# Altium schematic symbol library NX138AKR.SchLib: 1 symbol
Pins are listed as number, name and electrical type; pins without a type are passive.

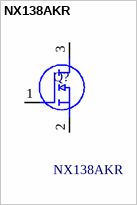
[diagram p0: symbol NX138AKR]

## NX138AKR
designator Q?
MOSFET 60V N-CH TENCH MOS; Manufacturer_Name: Nexperia; Geometry.Height: 1.1mm; Mouser Part Number: 771-NX138AKR; Mouser Price/Stock: https://www.mouser.co.uk/ProductDetail/Nexperia/NX138AKR?qs=1fQ7IOp4WrgZzhNlGoooaw%3D%3D; Manufacturer_Part_Number: NX138AKR; Datasheet Link: https://assets.nexperia.com/documents/data-sheet/NX138AK.pdf
footprint SOT95P230X110-3N
pins: 1 G, 2 S, 3 D